# Altium footprint library ABS8.PcbLib: 1 footprints
Each footprint in its own frame and in the unit in brackets; x right, y up, seen from the top. Pads: shape width x height; smd on the part's side, far side on the other; paste and mask are expansions set on the pad; w line width, h text height; cw(c..) or ccw(c..) is an arc to the next point about the centre after c.
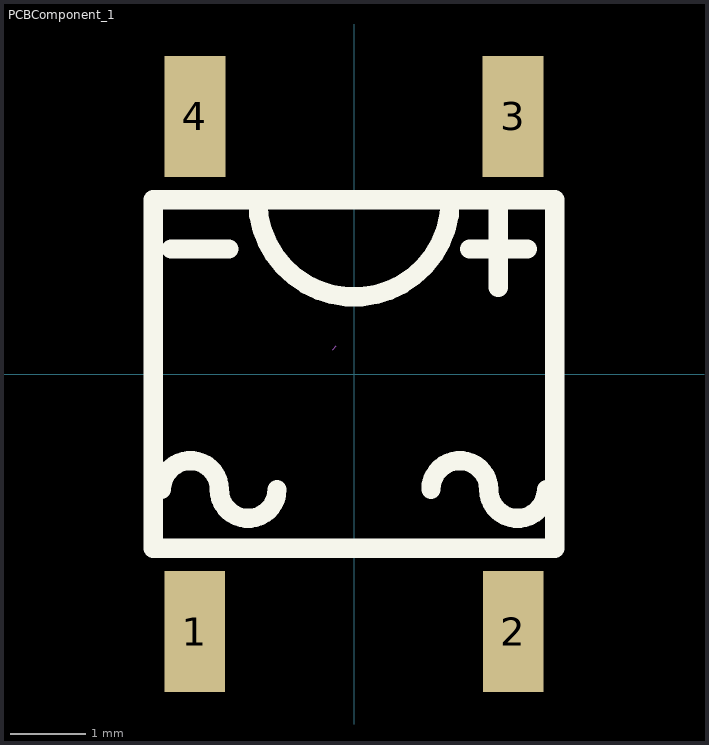
[diagram p0: the footprint, top view; thin cyan lines are the x and y axes]

## PCBComponent_1 [mm]
pads (4):
  rect 0.8x1.6 smd: 1(-2.1,-3.4) 2(2.1,-3.4) 3(2.099,3.4) 4(-2.099,3.4)
Top Overlay:
  lines w0.254: -2.54,-1.524 cw(c-2.159,-1.524) -1.778,-1.524 ccw(c-1.397,-1.524) -1.016,-1.524 ; -2.413,1.651 -1.651,1.651 ; -1.27,2.286 ccw(c0,2.286) 1.27,2.286 ; 1.016,-1.524 cw(c1.397,-1.524) 1.778,-1.524 ccw(c2.159,-1.524) 2.54,-1.524 ; 1.524,1.651 2.286,1.651 ; 1.905,1.143 1.905,2.159 ; -2.65,-2.3 -2.65,2.3 2.65,2.3 2.65,-2.3 -2.65,-2.3
Mechanical 15:
  lines w0.003: -0.282,0.319 -0.231,0.37